# Altium footprint library 2x5_10P_Header.PcbLib: 1 footprints
Each footprint in its own frame and in the unit in brackets; x right, y up, seen from the top. Pads: shape width x height; smd on the part's side, far side on the other; paste and mask are expansions set on the pad; w line width, h text height; cw(c..) or ccw(c..) is an arc to the next point about the centre after c.
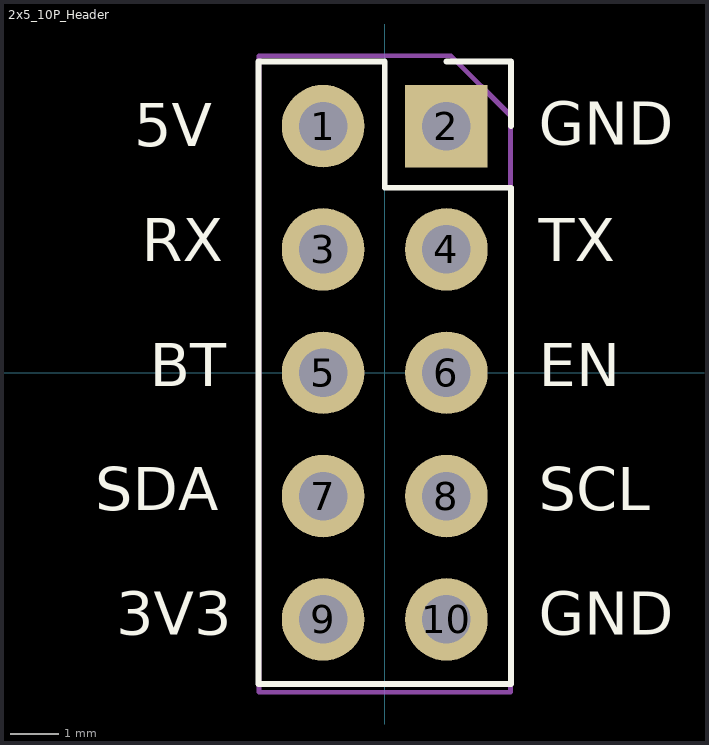
[diagram p0: the footprint, top view; thin cyan lines are the x and y axes]

## 2x5_10P_Header [mm]
pads (10):
  rrect100% 1.7x1.7 hole 1 paste-1.7 mask+0: 1(-1.27,5.08) 3(-1.27,2.54) 4(1.27,2.54) 5(-1.27,0) 6(1.27,0) 7(-1.27,-2.54) 8(1.27,-2.54) 9(-1.27,-5.08) 10(1.27,-5.08)
  rect 1.7x1.7 hole 1 paste-1.7 mask+0: 2(1.27,5.08)
Top Overlay:
  lines w0.12: 1.27,6.41 2.6,6.41 2.6,5.08 ; -2.6,-6.41 2.6,-6.41 2.6,3.81 0,3.81 0,6.41 -2.6,6.41 -2.6,-6.41
  text "TX" at 3.175,2 h1.52
  text "EN" at 3.175,-0.572 h1.52
  text "GND" at 3.175,-5.699 h1.52
  text "SCL" at 3.175,-3.127 h1.52
  text "5V" at -5.156,4.369 h1.52
  text "RX" at -5.002,2 h1.52
  text "BT" at -4.839,-0.572 h1.52
  text "3V3" at -5.53,-5.699 h1.52
  text "SDA" at -5.965,-3.127 h1.52
  text "GND" at 3.175,4.394 h1.52
Mechanical 1:
  lines w0.1: -2.591,-6.579 -2.591,6.528 1.362,6.528 2.591,5.299 2.591,-6.579 -2.591,-6.579
  text ".Designator" at -0.452,0.94 h1
Mechanical 10:
3D body "10-Pin Header - Female - Double - 2.54mm.step": height 8.55, standoff -2.95, extent -2.587,-6.6 2.413,6.6